# EAGLE library part FABO-PIN-HEADER-2X3-SMD (library FaBo-PIN)
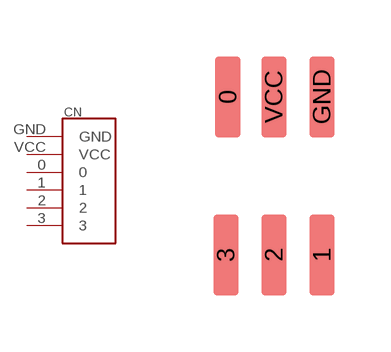
[diagram p0: symbol with the pads of FABO-PIN-HEADER-2X3-SMD; footprint FABO-PIN-HEADER-2X3-SMD]

Designator prefix CN

## FABO-PIN-HEADER-2X3-SMD  [FABO-PIN-HEADER-2X3-SMD]
0  0
1  1
2  2
3  3
GND  GND
VCC  VCC

## Footprint FABO-PIN-HEADER-2X3-SMD (pad centres in mm)
smd 0.635 x 2.032: 0 -1.08,2; 1 1.27,-1.95; 2 0.07,-1.95; 3 -1.13,-1.95; GND 1.27,2; VCC 0.07,2